# Altium footprint library OTHER.PCBLIB: 126 footprints (part 8 of 8)
Each footprint in its own frame and in the unit in brackets; x right, y up, seen from the top. Pads: shape width x height; smd on the part's side, far side on the other; paste and mask are expansions set on the pad; w line width, h text height; cw(c..) or ccw(c..) is an arc to the next point about the centre after c.
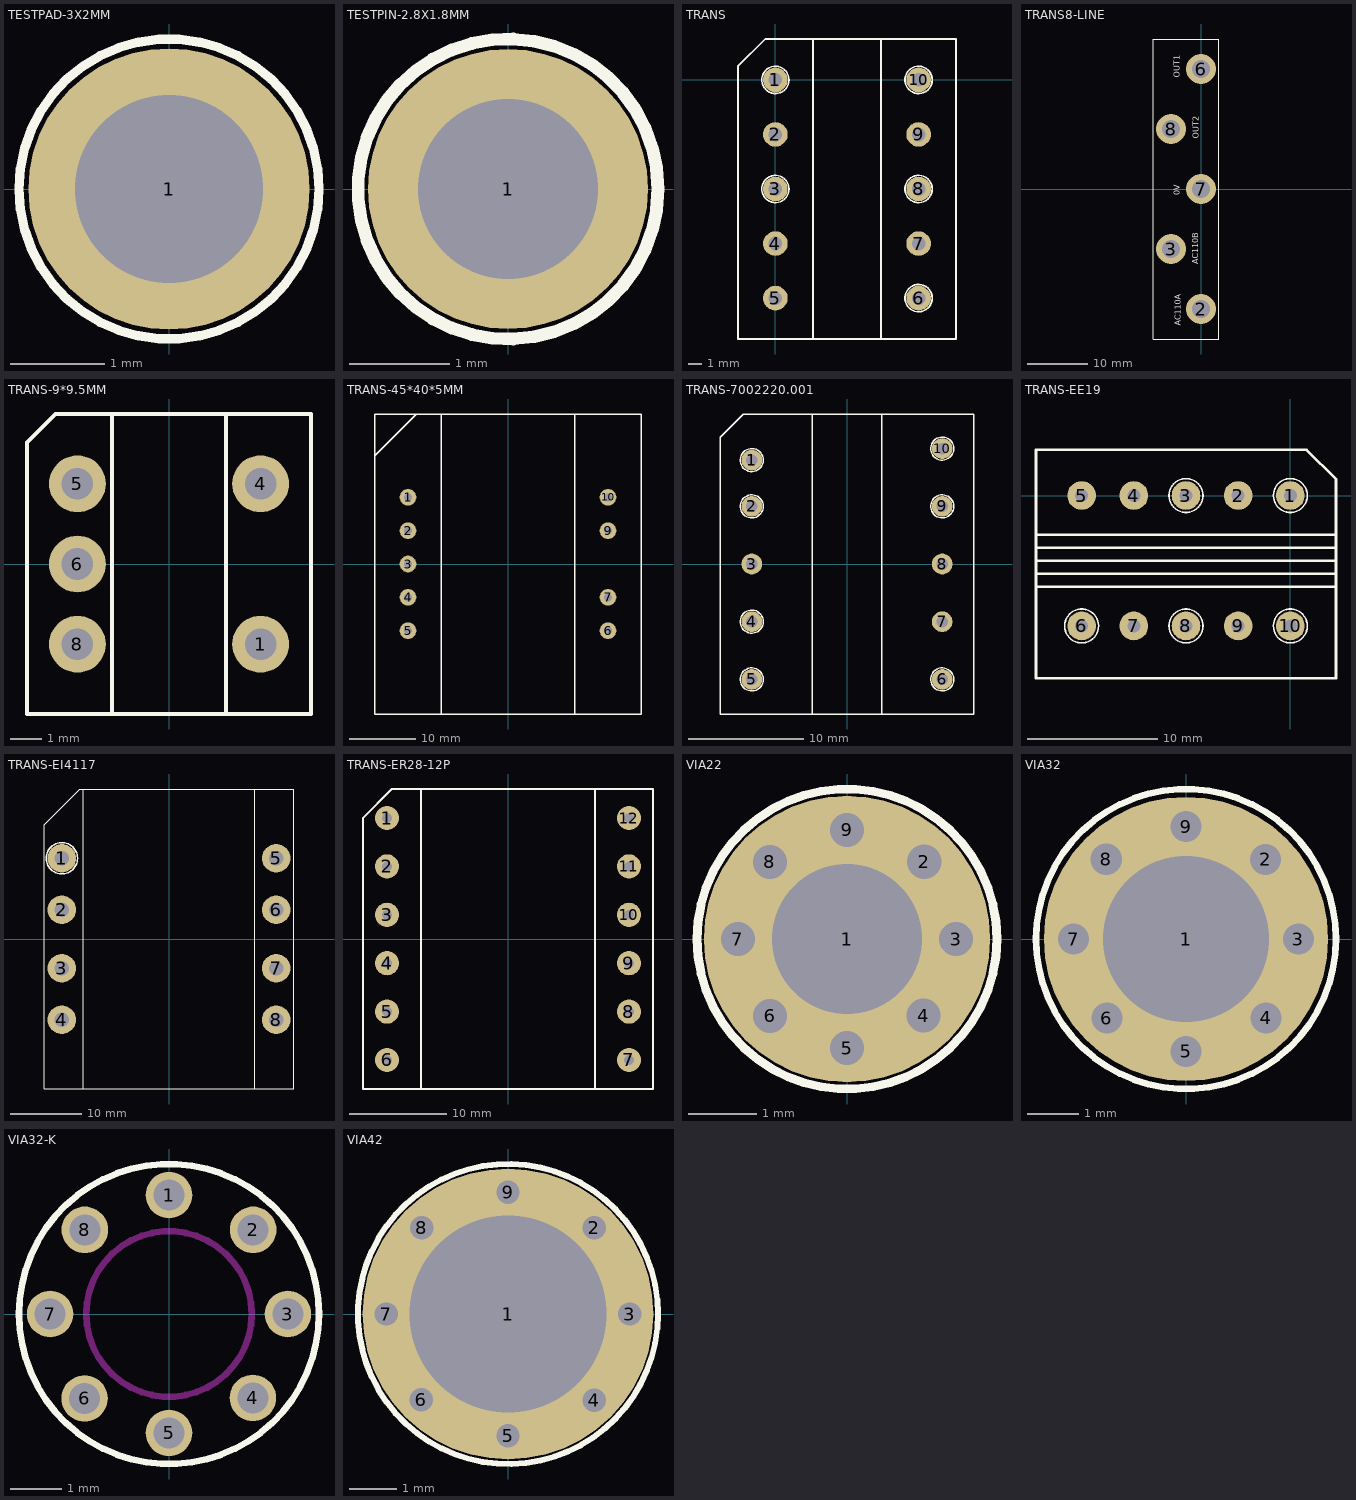
[diagram p7: the footprints below, top view; thin cyan lines are the x and y axes]

## TESTPAD-3X2MM [mm]
pads (1):
  round 3 hole 2: 1(0,0)
TopOverlay:
  circle w0.1: c0,0 r1.6

## TESTPIN-2.8X1.8MM [mm]
pads (1):
  round 2.8 hole 1.8: 1(0,0)
TopOverlay:
  circle w0.127: c0,0 r1.5

## TRANS [mm]
pads (10):
  round 1.8 hole 1: 1(0,0) 2(0,-4) 3(0,-8) 4(0,-12) 5(0,-16) 6(10.5,-16) 7(10.5,-12) 8(10.5,-8) 9(10.5,-4) 10(10.5,0)
TopOverlay:
  circle w0.127: c0,0 r1
  circle w0.127: c0,-8 r1
  circle w0.127: c10.5,0 r1
  circle w0.127: c10.5,-8 r1
  circle w0.127: c10.5,-16 r1
  lines w0.127: 2.75,-19 2.75,3 ; 7.75,-19 7.75,3 ; -2.75,-19 13.25,-19 13.25,3 -0.75,3 -2.75,1 -2.75,-19

## TRANS8-LINE [mm]
pads (5):
  round 5 hole 3: 2(0,-20) 3(-5,-10) 6(0,20) 7(0,0) 8(-5,10)
TopOverlay:
  lines w0.127: -8,-25 -8,25 3,25 3,-25 -8,-25
  text "AC110A" at -3.4,-22.8 h1
  text "AC110B" at -0.5,-12.5 h1
  text "OUT2" at -0.4,8.4 h1
  text "0V" at -3.5,-1 h1
  text "OUT1" at -3.5,18.5 h1

## TRANS-9*9.5MM [mm]
pads (5):
  round 1.8 hole 1: 1(2.9,-2.54) 4(2.9,2.54) 5(-2.9,2.54) 6(-2.9,0) 8(-2.9,-2.54)
TopOverlay:
  lines w0.127: -1.8,-4.75 -1.8,4.75 ; 1.8,-4.75 1.8,4.75 ; -4.5,-4.75 -4.5,3.85 -3.6,4.75 4.5,4.75 4.5,-4.75 -4.5,-4.75

## TRANS-45*40*5MM [mm]
pads (9):
  round 2.5 hole 1.2: 1(-15,10) 2(-15,5) 3(-15,0) 4(-15,-5) 5(-15,-10) 6(15,-10) 7(15,-5) 9(15,5) 10(15,10)
TopOverlay:
  lines w0.2: -20,16.25 -13.75,22.5 ; -10,-22.5 -10,22.5 ; 10,-22.5 10,22.5 ; -20,-22.5 20,-22.5 20,22.5 -20,22.5 -20,-22.5

## TRANS-7002220.001 [mm]
pads (10):
  round 1.8 hole 1: 1(-8.25,9) 2(-8.25,5) 3(-8.25,0) 4(-8.25,-5) 5(-8.25,-10) 6(8.25,-10) 7(8.25,-5) 8(8.25,0) 9(8.25,5) 10(8.25,10)
TopOverlay:
  circle w0.127: c8.25,5 r1
  circle w0.127: c-8.25,-10 r1
  circle w0.127: c-8.25,9 r1
  circle w0.127: c-8.25,5 r1
  circle w0.127: c8.25,10 r1
  circle w0.127: c-8.25,-5 r1
  circle w0.127: c8.25,-10 r1
  lines w0.127: -3,-13 -3,13 ; 3,-13 3,13 ; -11,-13 -11,11 -9,13 11,13 11,-13 -11,-13

## TRANS-EE19 [mm]
pads (10):
  round 2.2 hole 1: 1(0,0) 2(-4,0) 3(-8,0) 4(-12,0) 5(-16,0) 6(-16,-10) 7(-12,-10) 8(-8,-10) 9(-4,-10) 10(0,-10)
TopOverlay:
  circle w0.127: c-16,-10 r1.3
  circle w0.127: c-8,-10 r1.3
  circle w0.127: c0,-10 r1.3
  circle w0.127: c-8,0 r1.3
  circle w0.127: c0,0 r1.3
  lines w0.203: -19.5,-7 3.5,-7 ; -19.5,-5 3.5,-5 ; -19.5,-4 3.5,-4 ; -19.5,-3 3.5,-3 ; -19.5,1 -19.5,1.5 ; 1,3.5 1.25,3.5 ; 3.5,-6 -19.5,-6 ; -19.5,-6 -19.5,3.5 1.25,3.5 ; -19.5,-6 -19.5,-14 3.5,-14 3.5,1.25 1.25,3.5

## TRANS-EI4117 [mm]
pads (8):
  round 4 hole 2: 1(-15,11.3) 2(-15,4.1) 3(-15,-4.1) 4(-15,-11.3) 5(15,11.3) 6(15,4.1) 7(15,-4.1) 8(15,-11.3)
TopOverlay:
  circle w0.2: c-15,11.3 r2.2
  lines w0.127: -12,-21 -12,21 ; 12,-21 12,21 ; -17.5,-21 -17.5,16 -12.5,21 17.5,21 17.5,-21 -17.5,-21

## TRANS-ER28-12P [mm]
pads (12):
  round 2.5 hole 1: 1(-12.5,12.5) 2(-12.5,7.5) 3(-12.5,2.5) 4(-12.5,-2.5) 5(-12.5,-7.5) 6(-12.5,-12.5) 7(12.5,-12.5) 8(12.5,-7.5) 9(12.5,-2.5) 10(12.5,2.5) 11(12.5,7.5) 12(12.5,12.5)
TopOverlay:
  lines w0.2: -9,-15.5 -9,15.5 ; 9,-15.5 9,15.5 ; -15,-15.5 15,-15.5 15,15.5 -12,15.5 -15,12.5 -15,-15.5

## VIA22 [mm]
pads (9):
  round 4.2 hole 2.2: 1(0,0)
  round 1 hole 0.5: 2(1.132,1.132) 3(1.599,0) 4(1.125,-1.125) 5(0,-1.599) 6(-1.129,-1.129) 7(-1.599,0) 8(-1.131,1.131) 9(0,1.599)
TopOverlay:
  circle w0.127: c0,0 r2.2

## VIA32 [mm]
pads (9):
  round 5.5 hole 3.2: 1(0,0)
  round 1.1 hole 0.6: 2(1.539,1.539) 3(2.174,0) 4(1.549,-1.524) 5(0,-2.174) 6(-1.528,-1.528) 7(-2.174,0) 8(-1.542,1.542) 9(0,2.174)
TopOverlay:
  circle w0.127: c0,0 r2.9

## VIA32-K [mm]
pads (8):
  round 0.9 hole 0.6: 1(0,2.3) 2(1.628,1.628) 3(2.3,0) 4(1.621,-1.621) 5(0,-2.3) 6(-1.633,-1.633) 7(-2.3,0) 8(-1.628,1.628)
TopOverlay:
  circle w0.127: c0,0 r2.9
KeepOutLayer:
  circle w0.127: c0,0 r1.6

## VIA42 [mm]
pads (9):
  round 6.2 hole 4.2: 1(0,0)
  round 1 hole 0.5: 2(1.838,1.838) 3(2.6,0) 4(1.836,-1.836) 5(0,-2.6) 6(-1.85,-1.825) 7(-2.6,0) 8(-1.836,1.836) 9(0,2.6)
TopOverlay:
  circle w0.127: c0,0 r3.2